# Altium footprint library NYS215.PcbLib: 1 footprints
Each footprint in its own frame and in the unit in brackets; x right, y up, seen from the top. Pads: shape width x height; smd on the part's side, far side on the other; paste and mask are expansions set on the pad; w line width, h text height; cw(c..) or ccw(c..) is an arc to the next point about the centre after c.
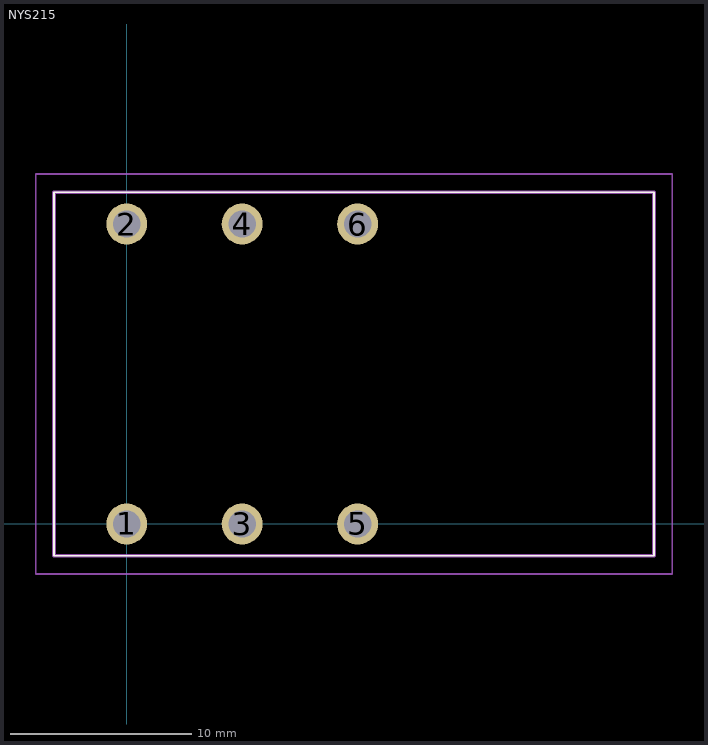
[diagram p0: the footprint, top view; thin cyan lines are the x and y axes]

## NYS215 [mm]
pads (6):
  round 2.25 hole 1.5: 1(0,0) 2(0,16.5) 3(6.35,0) 4(6.35,16.5) 5(12.7,0) 6(12.7,16.5)
Top Overlay:
  lines w0.1: -4,-1.75 29,-1.75 29,18.25 -4,18.25 -4,-1.75
Mechanical 15:
  lines w0.2: -4,-1.75 29,-1.75 29,18.25 -4,18.25 -4,-1.75
Mechanical 20:
  lines w0.1: -5,-2.75 30,-2.75 30,19.25 -5,19.25 -5,-2.75